# EAGLE library part ADS1292R (library holter)
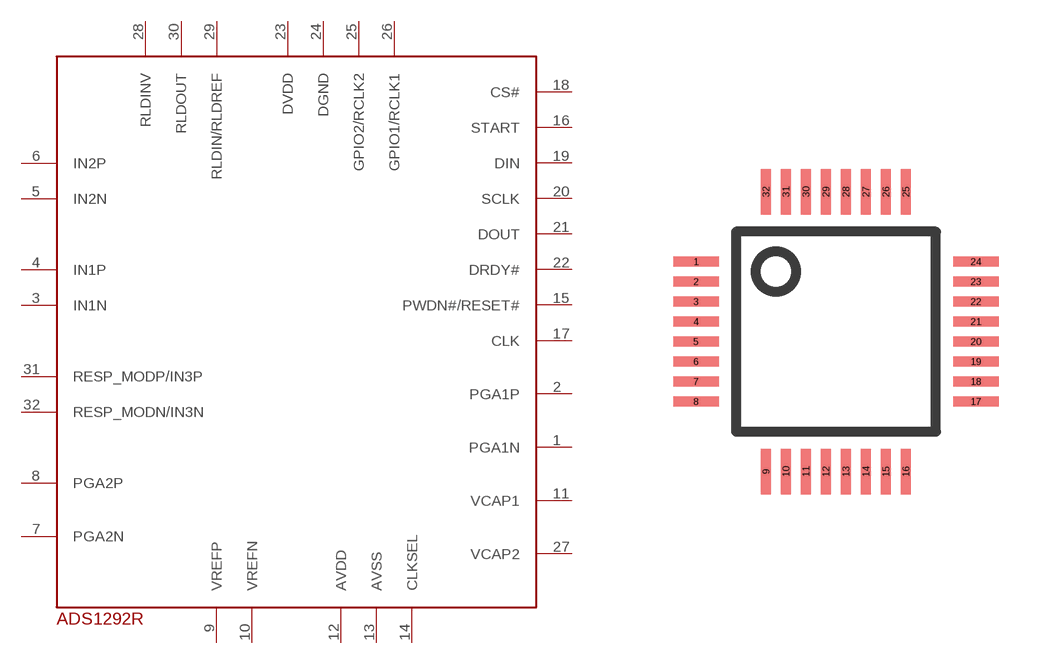
[diagram p1: symbol with the pads of TQFP-32; footprint TQFP-32]

Designator prefix -

## ADS1292R  [TQFP-32]
1  PGA1N
2  PGA1P
3  IN1N
4  IN1P
5  IN2N
6  IN2P
7  PGA2N
8  PGA2P
9  VREFP
10  VREFN
11  VCAP1
12  AVDD
13  AVSS
14  CLKSEL
15  PWDN#/RESET#
16  START
17  CLK
18  CS#
19  DIN
20  SCLK
21  DOUT
22  DRDY#
23  DVDD
24  DGND
25  GPIO2/RCLK2
26  GPIO1/RCLK1
27  VCAP2
28  RLDINV
29  RLDIN/RLDREF
30  RLDOUT
31  RESP_MODP/IN3P
32  RESP_MODN/IN3N

## Footprint TQFP-32 (pad centres in mm)
smd 1.143 x 0.254: 1 -3.5,1.75; 2 -3.5,1.25; 3 -3.5,0.75; 4 -3.5,0.25; 5 -3.5,-0.25; 6 -3.5,-0.75; 7 -3.5,-1.25; 8 -3.5,-1.75; 17 3.5,-1.75; 18 3.5,-1.25; 19 3.5,-0.75; 20 3.5,-0.25; 21 3.5,0.25; 22 3.5,0.75; 23 3.5,1.25; 24 3.5,1.75
smd 0.254 x 1.143: 9 -1.75,-3.5; 10 -1.25,-3.5; 11 -0.75,-3.5; 12 -0.25,-3.5; 13 0.25,-3.5; 14 0.75,-3.5; 15 1.25,-3.5; 16 1.75,-3.5; 25 1.75,3.5; 26 1.25,3.5; 27 0.75,3.5; 28 0.25,3.5; 29 -0.25,3.5; 30 -0.75,3.5; 31 -1.25,3.5; 32 -1.75,3.5